# Altium footprint library USBC.PcbLib: 1 footprints
Each footprint in its own frame and in the unit in brackets; x right, y up, seen from the top. Pads: shape width x height; smd on the part's side, far side on the other; paste and mask are expansions set on the pad; w line width, h text height; cw(c..) or ccw(c..) is an arc to the next point about the centre after c.
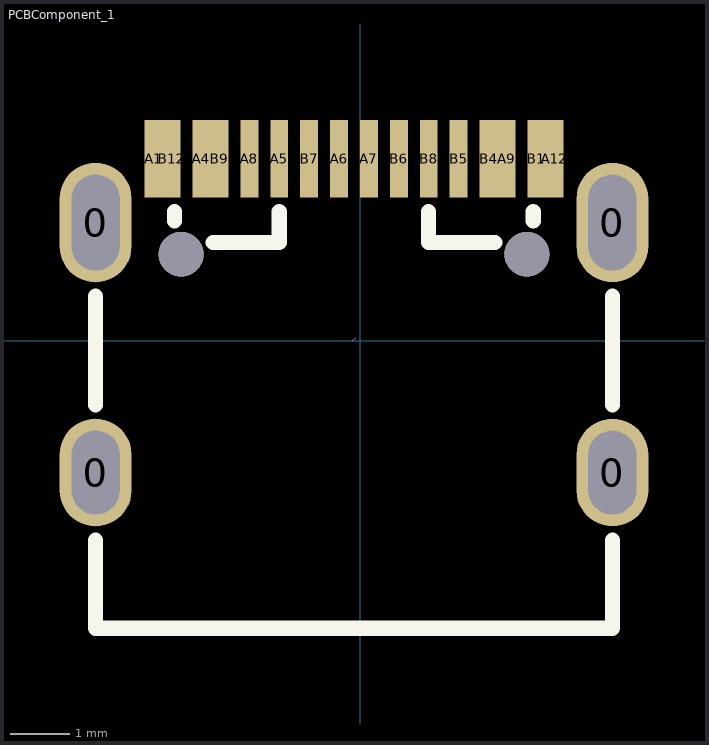
[diagram p0: the footprint, top view; thin cyan lines are the x and y axes]

## PCBComponent_1 [mm]
pads (22):
  oval 1.2x1.8 hole 0.8 slot 1.4 at 90 deg: 0(-4.422,-2.205) 0(4.218,-2.205)
  oval 1.2x2 hole 0.8 slot 1.6 at 90 deg: 0(-4.422,1.975) 0(4.218,1.975)
  rect 0.3x1.3 smd: A1(-3.452,3.042) A4(-2.651,3.042) A5(-1.352,3.042) A6(-0.352,3.042) A7(0.148,3.042) A8(-1.852,3.043) A9(2.449,3.042) A12(3.248,3.042) B1(2.948,3.042) B4(2.148,3.042) B5(1.648,3.042) B6(0.648,3.042) B7(-0.852,3.042) B8(1.148,3.043) B9(-2.352,3.042) B12(-3.152,3.042)
  round 0.75 hole 0.75 unplated: ""(-2.992,1.445) ""(2.788,1.445)
Top Overlay:
  lines w0.254: -4.422,-3.336 -4.422,-4.808 4.218,-4.808 4.218,-3.336 ; -4.422,-1.074 -4.422,0.744 ; -3.102,2.002 -3.102,2.161 ; -2.458,1.64 -1.352,1.64 -1.352,2.161 ; 1.145,2.162 1.145,1.642 2.256,1.642 ; 2.895,2.003 2.895,2.161 ; 4.218,-1.074 4.218,0.744
Mechanical 15:
  lines w0.003: -0.127,0 -0.076,0.051